# Altium schematic symbol library RTT06102JTP.SchLib: 1 symbol
Pins are listed as number, name and electrical type; pins without a type are passive.

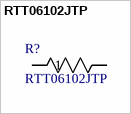
[diagram p0: symbol RTT06102JTP]

## RTT06102JTP
designator R?
No Description Available; Manufacturer_Name: Ralec; Copyright: Copyright (C) 2026 Ultra Librarian. All rights reserved.; Manufacturer_Part_Number: RTT06102JTP
footprint RES_RTT06_RLC
pins: 1, 2